# EAGLE library part LTC3405A-1.8 (library PowerProducts)
1.5V, 1.8V, 1.5MHz, 300mA Synchronous Step-Down Regulators in ThinSOT
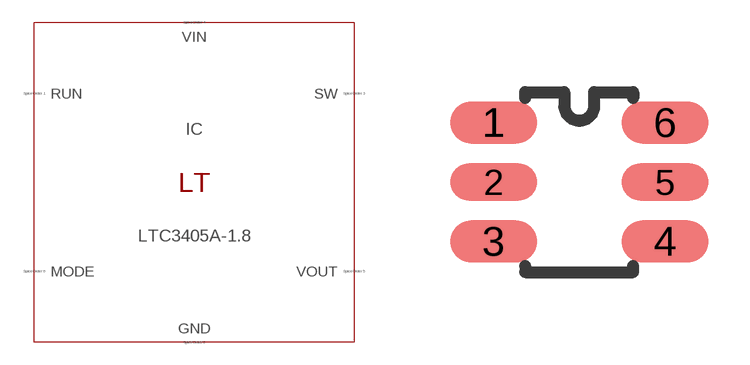
[diagram p165: symbol with the pads of SOT6(S6); footprint SOT6(S6)]

Designator prefix IC

## LTC3405A-1.8 (SPICEMODEL: LTC3405A-x.x.sub; SPICEPREFIX: X; VALUE2: LTC3405A-x.x top=180K bot=360K)  [SOT6(S6)]
1  RUN  pas
2  GND  pas
3  SW  pas
4  VIN  pas
5  VOUT  pas
6  MODE  pas

## Footprint SOT6(S6) (pad centres in mm)
Package generated from: SOT6(S6).asc (!PADS-POWERPCB-V9.3-BASIC! DESIGN DATABASE ASCII FILE 1.0) with :import-pads-powerpcb-v5.ulp Version 1.0.1 at 04.10.2012 14:11:36
smd 2.175 x 1.05: 1 -2.145,1.485; 3 -2.145,-1.485; 4 2.145,-1.485; 6 2.145,1.485
smd 2.175 x 0.93: 2 -2.145,0; 5 2.145,0